# EAGLE library part 615064243321 (library Wurth_Elektronik_Electromechanic_Input-Output_Connectors_rev16a)
WR-MJ Horizontal Shielded 2 x 4 Stacked Port with EMI Panel Finger 8P8C Modular Jack Tab Up & Down, 64 Pins=>Code : Con-I-O_MJ-H_Shielded_Up-Down_615064243321 <http://katalog.we-online.de/media/images/eican/Con-I-O_MJ-H_Shielded_Up-Down_615064243321_pf2.jpg> Details see: http://katalog.we-online.de/en/em/615_064_243_321 Created 2014-07-10, Karrer Zheng 2014 (C) Würth Elektronik
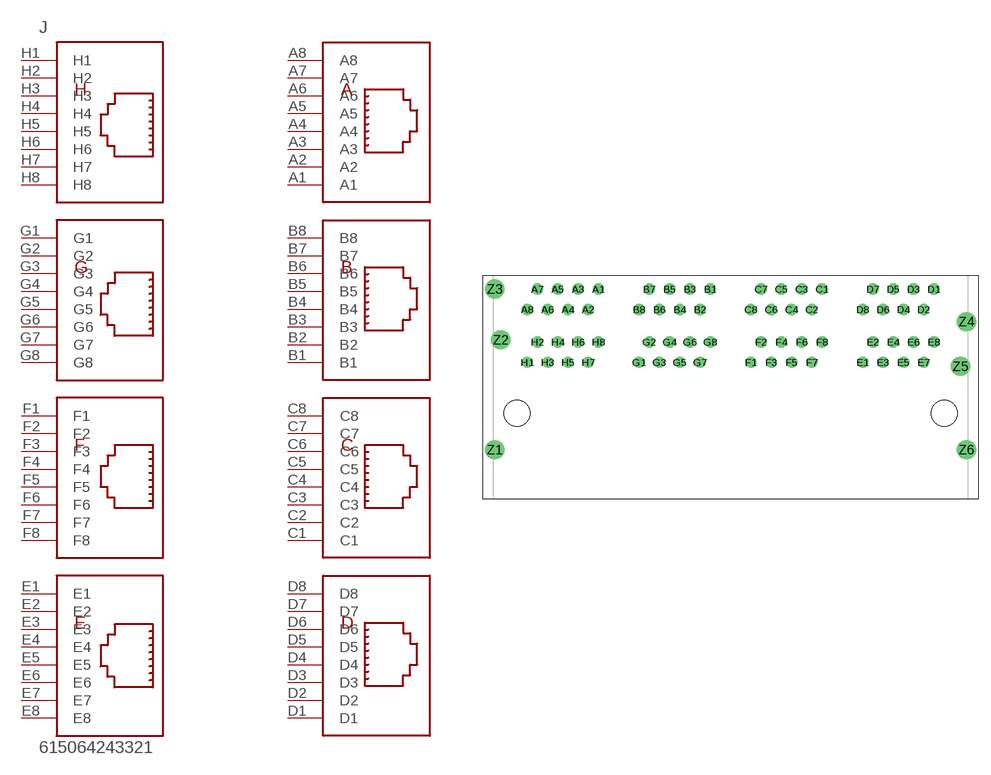
[diagram p137: symbol with the pads of 615064243321; footprint 615064243321]

Designator prefix J

## 615064243321  [615064243321]
A1  A1  pas
A2  A2  pas
A3  A3  pas
A4  A4  pas
A5  A5  pas
A6  A6  pas
A7  A7  pas
A8  A8  pas
B1  B1  pas
B2  B2  pas
B3  B3  pas
B4  B4  pas
B5  B5  pas
B6  B6  pas
B7  B7  pas
B8  B8  pas
C1  C1  pas
C2  C2  pas
C3  C3  pas
C4  C4  pas
C5  C5  pas
C6  C6  pas
C7  C7  pas
C8  C8  pas
D1  D1  pas
D2  D2  pas
D3  D3  pas
D4  D4  pas
D5  D5  pas
D6  D6  pas
D7  D7  pas
D8  D8  pas
E1  E1  pas
E2  E2  pas
E3  E3  pas
E4  E4  pas
E5  E5  pas
E6  E6  pas
E7  E7  pas
E8  E8  pas
F1  F1  pas
F2  F2  pas
F3  F3  pas
F4  F4  pas
F5  F5  pas
F6  F6  pas
F7  F7  pas
F8  F8  pas
G1  G1  pas
G2  G2  pas
G3  G3  pas
G4  G4  pas
G5  G5  pas
G6  G6  pas
G7  G7  pas
G8  G8  pas
H1  H1  pas
H2  H2  pas
H3  H3  pas
H4  H4  pas
H5  H5  pas
H6  H6  pas
H7  H7  pas
H8  H8  pas

## Footprint 615064243321 (pad centres in mm)
WR-MJ Horizontal Shielded 2 x 4 Stacked Port with EMI Panel Finger 8P8C Modular Jack Tab Up & Down, 64 Pins
drill 0.9: A1 -16.51,0.885; A2 -17.78,-1.655; A3 -19.05,0.885; A4 -20.32,-1.655; A5 -21.59,0.885; A6 -22.86,-1.655; A7 -24.13,0.885; A8 -25.4,-1.655; B1 -2.54,0.885; B2 -3.81,-1.655; B3 -5.08,0.885; B4 -6.35,-1.655; B5 -7.62,0.885; B6 -8.89,-1.655; B7 -10.16,0.885; B8 -11.43,-1.655; C1 11.43,0.885; C2 10.16,-1.655; C3 8.89,0.885; C4 7.62,-1.655; C5 6.35,0.885; C6 5.08,-1.655; C7 3.81,0.885; C8 2.54,-1.655; D1 25.4,0.885; D2 24.13,-1.655; D3 22.86,0.885; D4 21.59,-1.655; D5 20.32,0.885; D6 19.05,-1.655; D7 17.78,0.885; D8 16.51,-1.655; E1 16.51,-8.255; E2 17.78,-5.715; E3 19.05,-8.255; E4 20.32,-5.715; E5 21.59,-8.255; E6 22.86,-5.715; E7 24.13,-8.255; E8 25.4,-5.715; F1 2.54,-8.255; F2 3.81,-5.715; F3 5.08,-8.255; F4 6.35,-5.715; F5 7.62,-8.255; F6 8.89,-5.715; F7 10.16,-8.255; F8 11.43,-5.715; G1 -11.43,-8.255; G2 -10.16,-5.715; G3 -8.89,-8.255; G4 -7.62,-5.715; G5 -6.35,-8.255; G6 -5.08,-5.715; G7 -3.81,-8.255; G8 -2.54,-5.715; H1 -25.4,-8.255; H2 -24.13,-5.715; H3 -22.86,-8.255; H4 -21.59,-5.715; H5 -20.32,-8.255; H6 -19.05,-5.715; H7 -17.78,-8.255; H8 -16.51,-5.715
drill 1.6: Z1 -29.47,-19.175; Z2 -28.71,-5.455; Z3 -29.47,0.895; Z4 29.47,-3.175; Z5 28.71,-8.765; Z6 29.47,-19.175
hole 3.25 at -26.67,-14.605
hole 3.25 at 26.67,-14.605